# Altium footprint library 1N5339BG.PcbLib: 1 footprints
Each footprint in its own frame and in the unit in brackets; x right, y up, seen from the top. Pads: shape width x height; smd on the part's side, far side on the other; paste and mask are expansions set on the pad; w line width, h text height; cw(c..) or ccw(c..) is an arc to the next point about the centre after c.
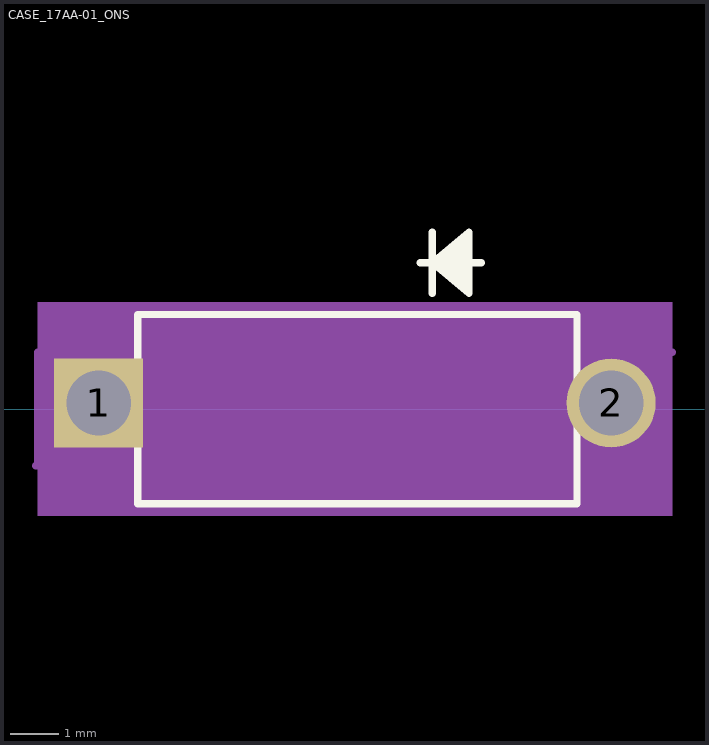
[diagram p0: the footprint, top view; thin cyan lines are the x and y axes]

## CASE_17AA-01_ONS [mil]
pads (2):
  rect 73x73 hole 53 mask+0: 1(135,5)
  round 73 hole 53 mask+0: 2(555,5)
Top Overlay:
  lines w6: 398.5,120 448.5,120 ; 408.5,95 408.5,145 ; 438.5,100 408.5,120 ; 438.5,105 408.5,120 ; 438.5,110 408.5,120 ; 438.5,115 408.5,120 ; 438.5,125 408.5,120 ; 438.5,130 408.5,120 ; 438.5,135 408.5,120 ; 438.5,140 408.5,120 ; 408.5,120 438.5,95 438.5,145 408.5,120 ; 167,-77.5 167,77.5 527,77.5 527,-77.5 167,-77.5
Mechanical 5:
  region: 605,-87.5 85,-87.5 85,87.5 605,87.5
Mechanical 13:
  lines w1: 135,0 172,0 ; 398.5,120 448.5,120 ; 408.5,95 408.5,145 ; 438.5,100 408.5,120 ; 438.5,105 408.5,120 ; 438.5,110 408.5,120 ; 438.5,115 408.5,120 ; 438.5,125 408.5,120 ; 438.5,130 408.5,120 ; 438.5,135 408.5,120 ; 438.5,140 408.5,120 ; 408.5,120 438.5,95 438.5,145 408.5,120 ; 172,-72.5 172,72.5 522,72.5 522,-72.5 172,-72.5
Mechanical 15:
  region: 162,-46.5 85,-46.5 85,46.5 162,46.5 162,82.5 532,82.5 532,46.5 605,46.5 605,-46.5 532,-46.5 532,-82.5 162,-82.5
  lines w6: 600,-45 532,-45 532,-82.5 162,-82.5 162,-46.5 83.5,-46.5 85,-45 85,46.5 162,46.5 162,82.5 532,82.5 532,46.5 605,46.5
3D body "1N5927B(ON).STEP": height 131.69, standoff -117.13, extent 125.6,-51.97 563.82,51.97